# Altium footprint library TXS0206-29.PcbLib: 1 footprints
Each footprint in its own frame and in the unit in brackets; x right, y up, seen from the top. Pads: shape width x height; smd on the part's side, far side on the other; paste and mask are expansions set on the pad; w line width, h text height; cw(c..) or ccw(c..) is an arc to the next point about the centre after c.
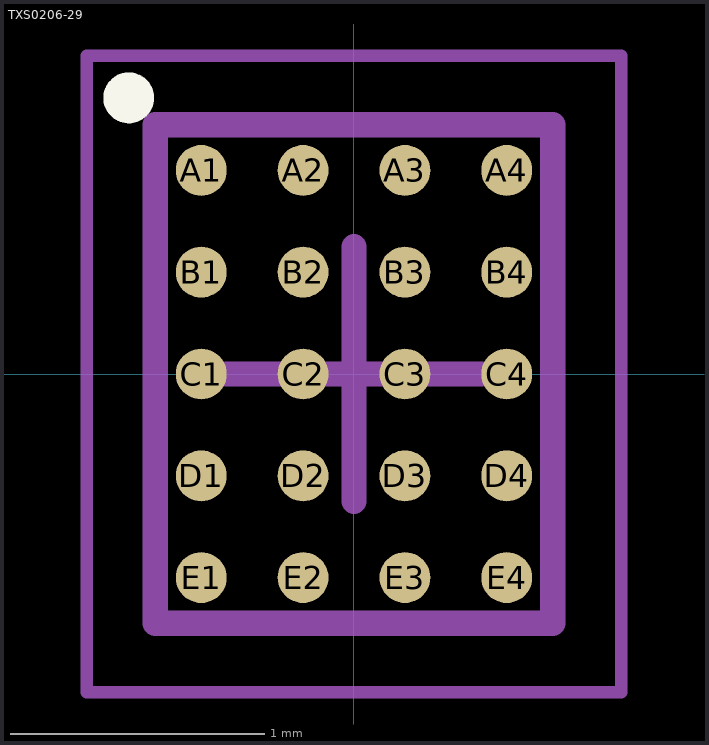
[diagram p0: the footprint, top view; thin cyan lines are the x and y axes]

## TXS0206-29 [mm] "BGA20C40P4X5_156X196X50, BGA, 20-Leads, Body 1.56x1.96mmx0.50mm, Pitch 0.40mm"
height 0.5
pads (20):
  round 0.2 smd: A1(-0.6,0.8) A2(-0.2,0.8) A3(0.2,0.8) A4(0.6,0.8) B1(-0.6,0.4) B2(-0.2,0.4) B3(0.2,0.4) B4(0.6,0.4) C1(-0.6,0) C2(-0.2,0) C3(0.2,0) C4(0.6,0) D1(-0.6,-0.4) D2(-0.2,-0.4) D3(0.2,-0.4) D4(0.6,-0.4) E1(-0.6,-0.8) E2(-0.2,-0.8) E3(0.2,-0.8) E4(0.6,-0.8)
Top Overlay:
  circle w0.1: c-0.885,1.085 r0.05
Mechanical 13:
  lines w0.1: -0.78,-0.98 0.78,-0.98 0.78,0.98 -0.78,0.98 -0.78,-0.98
Mechanical 15:
  lines w0.05: -1.05,-1.25 1.05,-1.25 1.05,1.25 -1.05,1.25 -1.05,-1.25
  lines w0.1: -0.5,0 0.5,0 ; 0,-0.5 0,0.5
3D body: height 0.5, standoff 0.13, extent -0.78,-0.98 0.78,0.98